# Altium footprint library IDC_100_2x7.PcbLib: 1 footprints
Each footprint in its own frame and in the unit in brackets; x right, y up, seen from the top. Pads: shape width x height; smd on the part's side, far side on the other; paste and mask are expansions set on the pad; w line width, h text height; cw(c..) or ccw(c..) is an arc to the next point about the centre after c.
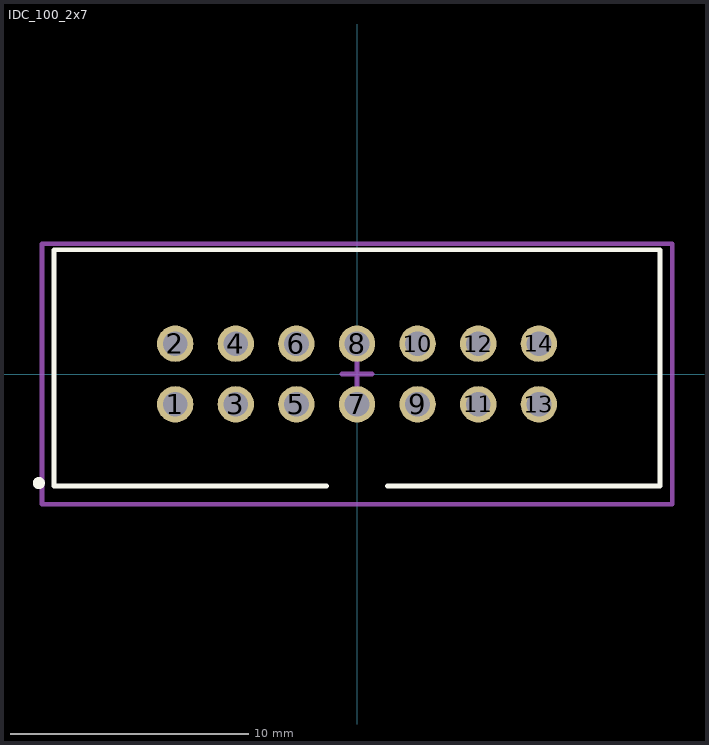
[diagram p0: the footprint, top view; thin cyan lines are the x and y axes]

## IDC_100_2x7 [mil]
pads (14):
  round 60 hole 41: 1(-300,-50) 2(-300,50) 3(-200,-50) 4(-200,50) 5(-100,-50) 6(-100,50) 7(0,-50) 8(0,50) 9(100,-50) 10(100,50) 11(200,-50) 12(200,50) 13(300,-50) 14(300,50)
Top Overlay:
  circle w10: c-525,-180 r5
  lines w7.87: -50,-185 -500,-185 -500,205 500,205 500,-185 50,-185
Mechanical 15:
  lines w7.87: -25,0 25,0 ; 0,-25 0,25 ; -520,-215 -520,215 520,215 520,-215 -520,-215
3D body "75869102lf.stp": height 367.56, standoff -119.44, extent -491.93,-174.96 491.93,190